# Altium footprint library SOT-363.PcbLib: 1 footprints
Each footprint in its own frame and in the unit in brackets; x right, y up, seen from the top. Pads: shape width x height; smd on the part's side, far side on the other; paste and mask are expansions set on the pad; w line width, h text height; cw(c..) or ccw(c..) is an arc to the next point about the centre after c.
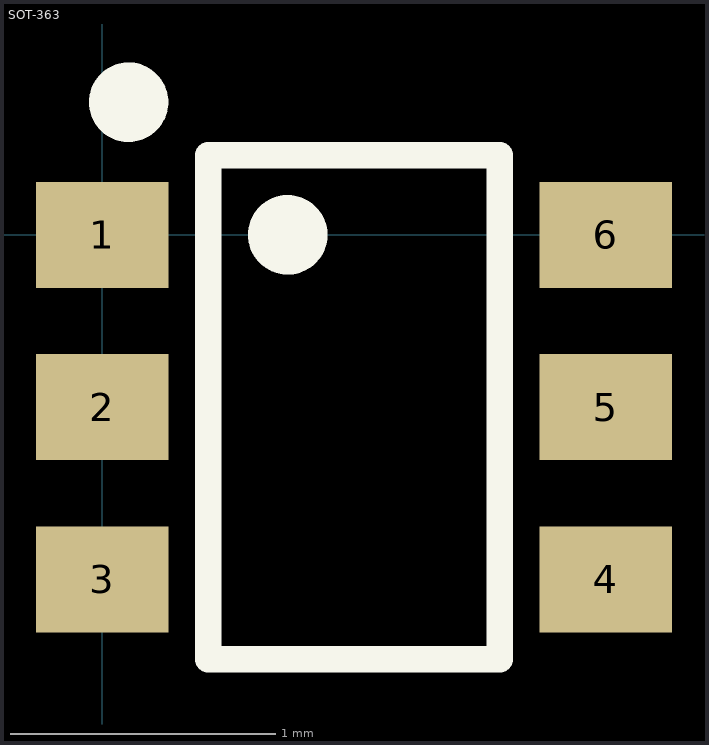
[diagram p0: the footprint, top view; thin cyan lines are the x and y axes]

## SOT-363 [mm]
pads (6):
  rect 0.5x0.4 smd mask+0.05: 1(0,0) 2(0,-0.65) 3(0,-1.3) 4(1.9,-1.3) 5(1.9,-0.65) 6(1.9,0)
Top Overlay:
  circle w0.2: c0.1,0.5 r0.05
  circle w0.2: c0.7,0 r0.05
  lines w0.1: 0.4,-1.6 0.4,0.3 1.5,0.3 1.5,-1.6 0.4,-1.6
3D body: height 0.95, standoff 0, extent 0.325,-1.65 1.575,0.35